# Altium footprint library PcbLib1.PcbLib: 39 footprints (part 1 of 3)
Each footprint in its own frame and in the unit in brackets; x right, y up, seen from the top. Pads: shape width x height; smd on the part's side, far side on the other; paste and mask are expansions set on the pad; w line width, h text height; cw(c..) or ccw(c..) is an arc to the next point about the centre after c.
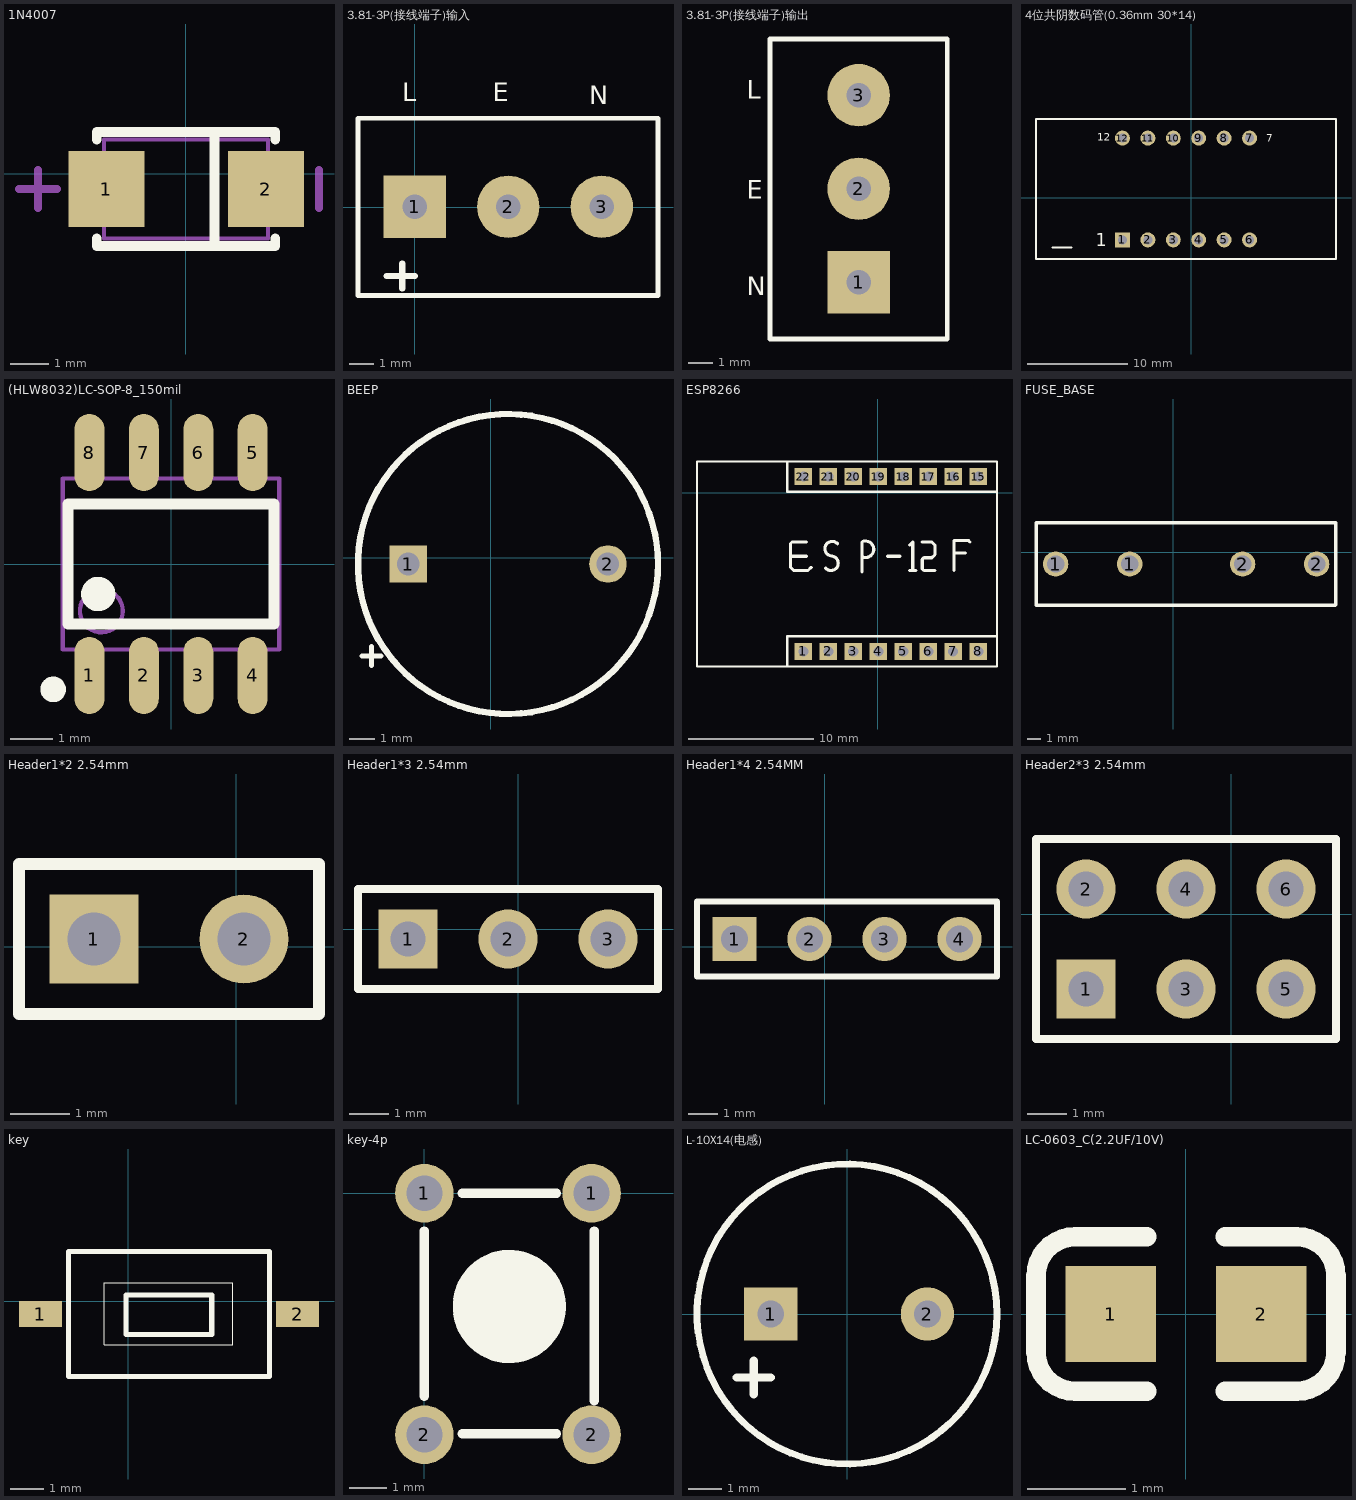
[diagram p0: the footprints below, top view; thin cyan lines are the x and y axes]

## 1N4007 [mm]
pads (2):
  rect 2x2 smd: 1(-2.092,-0.408) 2(2.108,-0.408)
Top Overlay:
  lines w0.254: -2.342,-1.708 -2.342,-1.908 2.358,-1.908 2.358,-1.708 ; -2.342,0.892 -2.342,1.092 2.358,1.092 2.358,0.892 ; 0.758,-1.908 0.758,1.092
Mechanical 13:
  lines w0.1: -2.152,-1.708 -2.152,0.892 2.168,0.892 2.168,-1.708 -2.152,-1.708
Mechanical 15:
  lines w0.203: -4.392,-0.408 -3.392,-0.408 ; -3.892,-0.908 -3.892,0.092 ; 3.508,-0.908 3.508,0.092

## 3.81-3P(接线端子)输入 [mm]
height 2.65
pads (3):
  rect 2.54x2.54 hole 1: 1(0,0.025)
  round 2.54 hole 1: 2(3.81,0.025) 3(7.62,0.025)
Top Overlay:
  lines w0.199: -2.311,-3.581 -2.311,3.632 9.906,3.632 9.906,-3.581 -2.311,-3.581
  lines w0.254: -1.143,-2.794 0,-2.794 ; -0.508,-3.302 -0.508,-2.286
  text "N" at 7.112,4.191 h0.76
  text "E" at 3.175,4.318 h0.76
  text "L" at -0.508,4.318 h0.76

## 3.81-3P(接线端子)输出 [mm]
pads (3):
  rect 2.54x2.54 hole 1: 1(18.526,-43.923)
  round 2.54 hole 1: 2(18.526,-40.113) 3(18.526,-36.303)
Top Overlay:
  lines w0.199: 14.919,-46.234 14.919,-34.017 22.132,-34.017 22.132,-46.234 14.919,-46.234
  text "N" at 13.97,-44.45 h0.76
  text "E" at 13.97,-40.513 h0.76
  text "L" at 13.97,-36.449 h0.76

## 4位共阴数码管(0.36mm 30*14) [mm]
pads (12):
  rect 1.5x1.5 hole 0.9: 1(-6.858,-4.191)
  round 1.5 hole 0.9: 2(-4.318,-4.191) 3(-1.778,-4.191) 4(0.762,-4.191) 5(3.302,-4.191) 6(5.842,-4.191) 7(5.842,5.969) 8(3.302,5.969) 9(0.762,5.969) 10(-1.778,5.969) 11(-4.318,5.969) 12(-6.858,5.969)
Top Overlay:
  lines w0.2: -13.843,-4.953 -11.938,-4.953 ; -15.494,-6.096 -15.494,7.874 14.478,7.874 14.478,-6.096 -15.494,-6.096
  text "1" at -9.525,-4.826 h1.27
  text "12" at -9.398,5.715 h0.76
  text "7" at 7.493,5.588 h0.76

## (HLW8032)LC-SOP-8_150mil [mm]
height 2.65
pads (8):
  oval 0.7x1.8 smd: 1(-1.905,-2.6) 2(-0.635,-2.6) 3(0.635,-2.6) 4(1.905,-2.6) 5(1.905,2.6) 6(0.635,2.6) 7(-0.635,2.6) 8(-1.905,2.6)
Top Overlay:
  circle w0.3: c-2.75,-2.925 r0.15
  circle w0.4: c-1.7,-0.7 r0.2
  lines w0.254: -2.4,-1.4 2.4,-1.4 2.4,1.4 -2.4,1.4 -2.4,-1.4
Mechanical 13:
  circle w0.1: c-1.625,-1.095 r0.5
  lines w0.1: -2.525,-1.995 2.525,-1.995 2.525,1.995 -2.525,1.995 -2.525,-1.995
3D body "User Library-SOIC-8-150.STEP": height 1.75, standoff 0, extent -2.5,-3.1 2.5,3.1

## BEEP [mm]
pads (2):
  rect 1.5x1.5 hole 0.9: 1(-3.302,-0.254)
  round 1.5 hole 0.9: 2(4.698,-0.254)
Top Overlay:
  circle w0.254: c0.698,-0.254 r6
  lines w0.2: -5.144,-3.937 -4.382,-3.937 ; -4.763,-4.318 -4.763,-3.556

## ESP8266 [mm]
pads (16):
  rect 1.4x1.4 hole 0.8: 1(-5.969,-12.7) 2(-3.969,-12.7) 3(-1.969,-12.7) 4(0.031,-12.7) 5(2.031,-12.7) 6(4.031,-12.7) 7(6.031,-12.7) 8(8.031,-12.7) 15(8.031,1.3) 16(6.031,1.3) 17(4.031,1.3) 18(2.031,1.3) 19(0.031,1.3) 20(-1.969,1.3) 21(-3.969,1.3) 22(-5.969,1.3)
Top Overlay:
  lines w0.2: -7.239,-13.9 -7.239,-11.5 9.531,-11.5 ; -7.239,2.5 -7.239,0.1 9.531,0.1 ; -14.469,-13.9 -14.469,2.5 9.531,2.5 9.531,-13.9 -14.469,-13.9
  lines w0.254: -6.985,-5.08 -5.715,-5.08 ; -5.715,-3.937 -6.858,-3.937 -6.985,-4.064 -6.985,-5.969 -6.731,-6.223 -5.715,-6.223 -5.588,-6.223 -5.334,-5.969 ; -4.174,-6.042 ccw(c-3.754,-5.636) -3.741,-5.052 cw(c-3.656,-4.474) -3.221,-4.084 ; -1.27,-6.35 -1.27,-3.937 ; -1.232,-3.904 cw(c-0.987,-4.518) -1.147,-5.158 ; 0.762,-5.08 1.778,-5.08 ; 2.54,-6.223 3.048,-6.223 ; 2.54,-4.191 2.794,-3.937 2.794,-6.223 ; 3.556,-3.937 4.318,-3.937 4.572,-4.191 4.572,-4.953 4.318,-5.207 3.683,-5.207 3.556,-5.334 3.556,-6.096 3.683,-6.223 4.572,-6.223 ; 6.096,-6.223 6.096,-3.81 7.239,-3.81 7.366,-3.937 ; 6.096,-4.826 6.985,-4.826

## FUSE_BASE [mm]
pads (4):
  round 1.9 hole 1.3: 1(-8.833,-0.889) 1(-3.273,-0.889) 2(5.207,-0.889) 2(10.767,-0.889)
Top Overlay:
  lines w0.254: -10.311,-3.989 10.967,-3.989 12.168,-3.989 12.21,-3.948 12.21,-3.789 12.21,2.011 12.21,2.202 12.219,2.211 ; -10.311,2.211 10.967,2.211 12.21,2.211 ; -10.301,-3.989 -10.301,2.211

## Header1*2 2.54mm [mm]
pads (2):
  rect 1.5x1.5 hole 0.9: 1(-2.413,0.127)
  round 1.5 hole 0.9: 2(0.127,0.127)
Top Overlay:
  lines w0.2: -3.683,-1.143 -3.683,1.397 1.397,1.397 1.397,-1.143 -3.683,-1.143

## Header1*3 2.54mm [mm]
pads (3):
  rect 1.5x1.5 hole 0.9: 1(-2.794,-0.254)
  round 1.5 hole 0.9: 2(-0.254,-0.254) 3(2.286,-0.254)
Top Overlay:
  lines w0.2: -4.064,-1.524 3.556,-1.524 3.556,1.016 -4.064,1.016 -4.064,-1.524

## Header1*4 2.54MM [mm]
pads (4):
  rect 1.5x1.5 hole 0.9: 1(-3.048,0.254)
  round 1.5 hole 0.9: 2(-0.508,0.254) 3(2.032,0.254) 4(4.572,0.254)
Top Overlay:
  lines w0.2: -4.318,-1.016 5.842,-1.016 5.842,1.524 -4.318,1.524 -4.318,-1.016

## Header2*3 2.54mm [mm]
pads (6):
  rect 1.5x1.5 hole 0.9: 1(-3.683,-1.905)
  round 1.5 hole 0.9: 2(-3.683,0.635) 3(-1.143,-1.905) 4(-1.143,0.635) 5(1.397,-1.905) 6(1.397,0.635)
Top Overlay:
  lines w0.2: -2.201,-3.175 2.667,-3.175 ; 2.667,-3.175 -4.953,-3.175 -4.953,1.905 2.667,1.905 2.667,-3.175

## key [mm]
pads (2):
  rect 1.3x0.8 smd: 1(-2.667,-0.381) 2(5.133,-0.381)
Top Overlay:
  lines w0.025: -0.726,-1.319 3.16,-1.319 3.16,0.561 -0.726,0.561 -0.726,-1.319
  lines w0.152: -0.07,-1.004 -0.07,0.196 ; -0.07,-1.004 2.53,-1.004 ; -0.07,-1.004 -0.07,0.196 ; -0.07,-1.004 2.53,-1.004 ; -0.07,0.196 2.53,0.196 ; -0.07,0.196 2.53,0.196 ; 2.53,-1.004 2.53,0.196 ; 2.53,-1.004 2.53,0.196 ; -1.817,-2.281 4.283,-2.281 4.283,1.519 -1.817,1.519 -1.817,-0.381 -1.817,-2.281

## key-4p [mil]
pads (4):
  round 62 hole 38: 1(0,0) 1(177.17,0) 2(0,-255.91) 2(177.17,-255.91)
Top Overlay:
  circle w60: c90,-120 r30
  lines w10: 0,-215 0,-40 ; 39.97,-255 64.98,-255 114.99,-255 140,-255 ; 39.97,0 140,0 ; 180,-220 180,-40

## L-10X14(电感) [mm]
height 2.65
pads (2):
  rect 1.6x1.6 hole 0.8: 1(-2.286,0)
  round 1.6 hole 0.8: 2(2.413,0)
Top Overlay:
  circle w0.203: c0,0 r4.5
  lines w0.254: -3.302,-1.905 -2.54,-1.905 ; -2.794,-2.413 -2.794,-1.397 ; -2.794,-1.905 -2.286,-1.905

## LC-0603_C(2.2UF/10V) [mm]
height 2.65
pads (2):
  rect 0.93x0.98 smd: 1(-0.77,0) 2(0.77,0)
Top Overlay:
  lines w0.2: -0.4,-0.79 -1.135,-0.79 cw(c-1.135,-0.39) -1.535,-0.39 -1.535,0.39 cw(c-1.135,0.39) -1.135,0.79 -0.4,0.79 ; 0.4,-0.79 1.135,-0.79 ccw(c1.135,-0.39) 1.535,-0.39 1.535,0.39 ccw(c1.135,0.39) 1.135,0.79 0.4,0.79
3D body "User Library-0603 SMD Capacitor.STEP": height 0.3, standoff 0, extent -0.8,-0.4 0.8,0.4